# Altium schematic symbol library Power-BMIC-PW4213.SchLib: 1 symbol
Pins are listed as number, name and electrical type; pins without a type are passive.

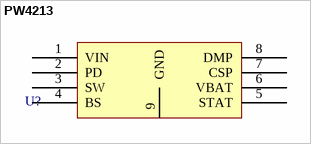
[diagram p0: symbol PW4213]

## PW4213
designator U?
pins: 1 VIN, 2 PD, 3 SW, 4 BS, 5 STAT, 6 VBAT, 7 CSP, 8 DMP, 9 GND